# EAGLE library part PCIE-064-02-F-D-RA (library CONNECTORs)
64 Position Female Connector PCI Express™ Gold 0.039" (1.00mm) Black
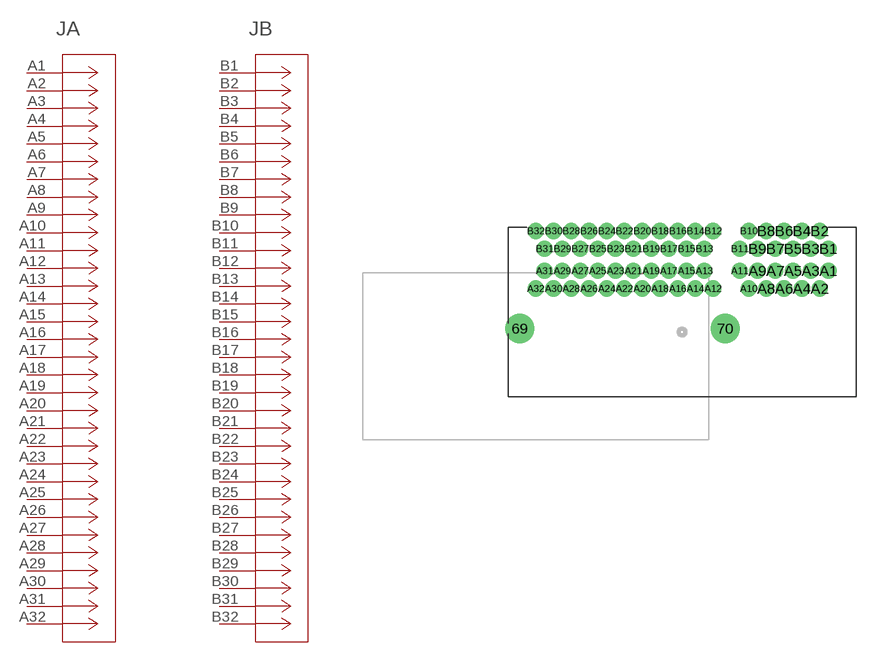
[diagram p72: symbol with the pads of CONN_PCIE-064-02-F-D-RA_SAI; footprint CONN_PCIE-064-02-F-D-RA_SAI]

Designator prefix J; gates A=CONN_PCIE-064-02-F-D-RA B=CONN_PCIE-064-02-F-D-RA_4

## PCIE-064-02-F-D-RA (DIGIKEY: SAM10626-ND; HEIGHT: 9.5; PRICE_PER: 6.99; VALUE: PCIE-064-02-F-D-RA)  [CONN_PCIE-064-02-F-D-RA_SAI]
A1  A:A1  pas
A2  A:A2  pas
A3  A:A3  pas
A4  A:A4  pas
A5  A:A5  pas
A6  A:A6  pas
A7  A:A7  pas
A8  A:A8  pas
A9  A:A9  pas
A10  A:A10  pas
A11  A:A11  pas
A12  A:A12  pas
A13  A:A13  pas
A14  A:A14  pas
A15  A:A15  pas
A16  A:A16  pas
A17  A:A17  pas
A18  A:A18  pas
A19  A:A19  pas
A20  A:A20  pas
A21  A:A21  pas
A22  A:A22  pas
A23  A:A23  pas
A24  A:A24  pas
A25  A:A25  pas
A26  A:A26  pas
A27  A:A27  pas
A28  A:A28  pas
A29  A:A29  pas
A30  A:A30  pas
A31  A:A31  pas
A32  A:A32  pas
B1  B:B1  pas
B2  B:B2  pas
B3  B:B3  pas
B4  B:B4  pas
B5  B:B5  pas
B6  B:B6  pas
B7  B:B7  pas
B8  B:B8  pas
B9  B:B9  pas
B10  B:B10  pas
B11  B:B11  pas
B12  B:B12  pas
B13  B:B13  pas
B14  B:B14  pas
B15  B:B15  pas
B16  B:B16  pas
B17  B:B17  pas
B18  B:B18  pas
B19  B:B19  pas
B20  B:B20  pas
B21  B:B21  pas
B22  B:B22  pas
B23  B:B23  pas
B24  B:B24  pas
B25  B:B25  pas
B26  B:B26  pas
B27  B:B27  pas
B28  B:B28  pas
B29  B:B29  pas
B30  B:B30  pas
B31  B:B31  pas
B32  B:B32  pas

## Footprint CONN_PCIE-064-02-F-D-RA_SAI (pad centres in mm)
drill 2.261 pad 2.261: 69 -18.298,-1.502; 70 4.841,-1.502
drill 1.219 pad 1.727: A1 16.5,5; A2 15.509,2.993; A3 14.493,5; A4 13.503,2.993; A5 12.512,5; A6 11.496,2.993; A7 10.506,5; A8 9.49,2.993; A9 8.499,5; A10 7.508,2.993; A11 6.492,5; A12 3.495,2.993; A13 2.505,5; A14 1.489,2.993; A15 0.498,5; A16 -0.493,2.993; A17 -1.509,5; A18 -2.499,2.993; A19 -3.49,5; A20 -4.506,2.993; A21 -5.496,5; A22 -6.512,2.993; A23 -7.503,5; A24 -8.494,2.993; A25 -9.51,5; A26 -10.5,2.993; A27 -11.491,5; A28 -12.507,2.993; A29 -13.497,5; A30 -14.488,2.993; A31 -15.504,5; A32 -16.495,2.993; B1 16.5,7.489; B2 15.509,9.496; B3 14.493,7.489; B4 13.503,9.496; B5 12.512,7.489; B6 11.496,9.496; B7 10.506,7.489; B8 9.49,9.496; B9 8.499,7.489; B10 7.508,9.496; B11 6.492,7.489; B12 3.495,9.496; B13 2.505,7.489; B14 1.489,9.496; B15 0.498,7.489; B16 -0.493,9.496; B17 -1.509,7.489; B18 -2.499,9.496; B19 -3.49,7.489; B20 -4.506,9.496; B21 -5.496,7.489; B22 -6.512,9.496; B23 -7.503,7.489; B24 -8.494,9.496; B25 -9.51,7.489; B26 -10.5,9.496; B27 -11.491,7.489; B28 -12.507,9.496; B29 -13.497,7.489; B30 -14.488,9.496; B31 -15.504,7.489; B32 -16.495,9.496